# EAGLE library part 61000621121 (library Board_to_Board_Connectors_rev15d)
WR-PHD 2.54mm Dual SMT Pin Header, 6 Pins =>Code : Con_BTB_PHD_2.54_2_61000621121 <http://katalog.we-online.de/media/images/eican/Con_BTB_PHD_2.54_2_6100xx21121_pf2.jpg> Details see: http://katalog.we-online.de/en/em/610_0xx_211_21 Created 2014-05-29, Karrer Zheng 2014 (C) Würth Elektronik
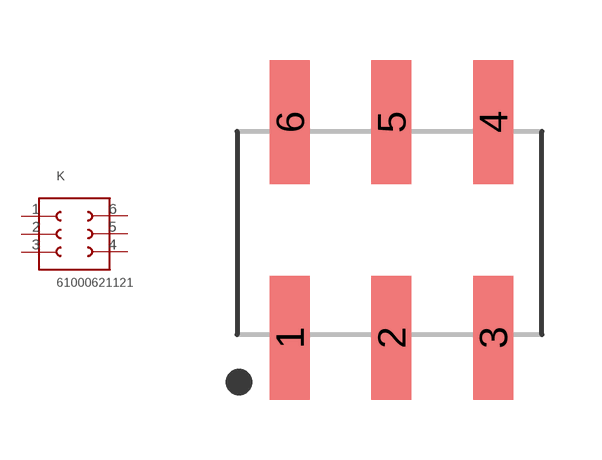
[diagram p73: symbol with the pads of 61000621121; footprint 61000621121]

Designator prefix K

## 61000621121  [61000621121]
1  1  pas
2  2  pas
3  3  pas
4  4  pas
5  5  pas
6  6  pas

## Footprint 61000621121 (pad centres in mm)
WR-PHD 2.54mm Dual SMT Pin Header, 6 Pins
smd 1 x 3.1: 1 -5.08,-2.7; 2 -2.54,-2.7; 3 0,-2.7; 4 0,2.7; 5 -2.54,2.7; 6 -5.08,2.7